# Altium schematic symbol library module_rf_wireless.SchLib: 27 symbols
Pins are listed as number, name and electrical type; pins without a type are passive.

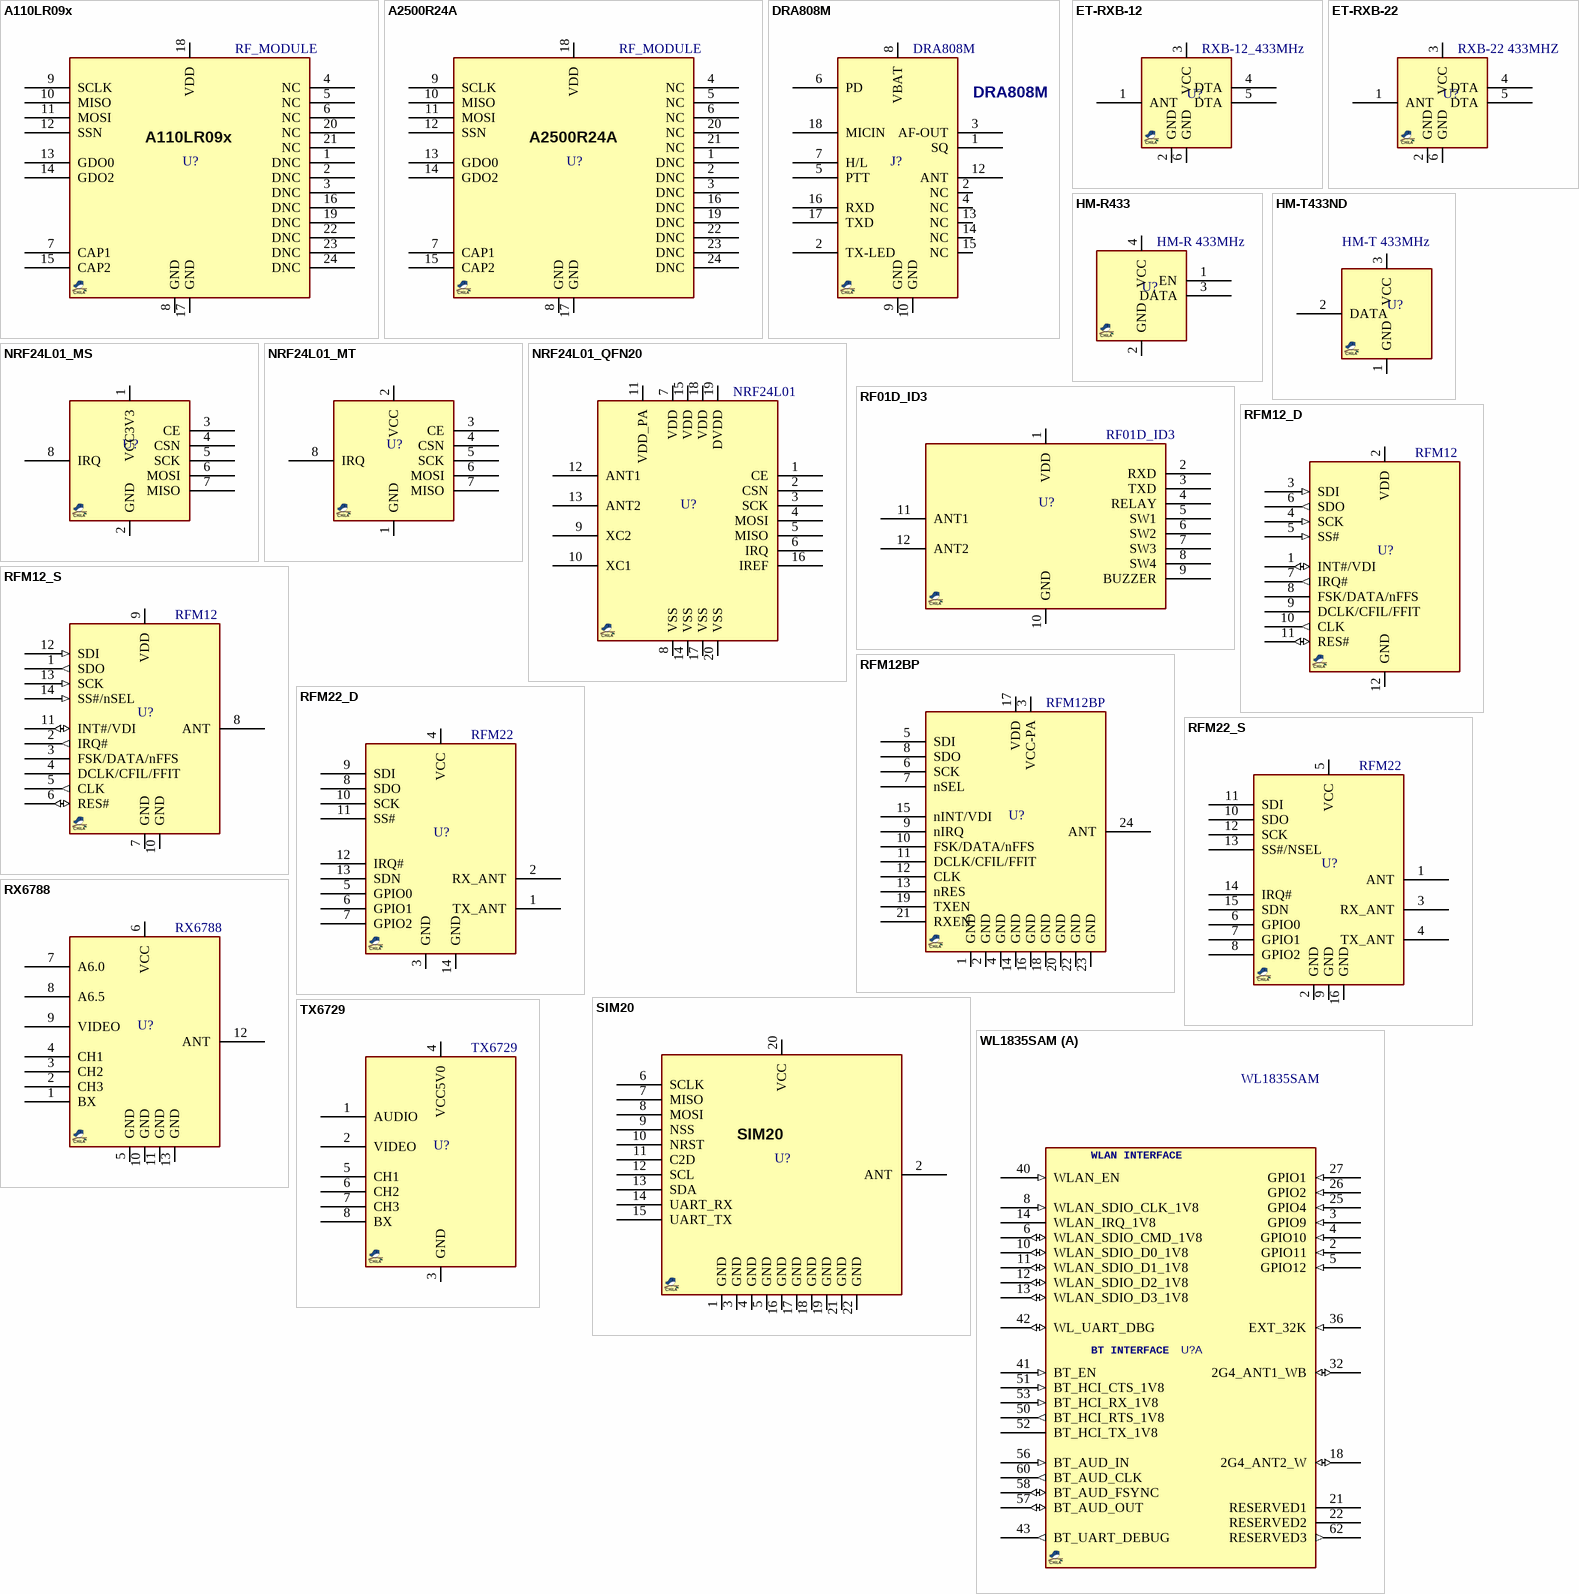
[diagram p0: symbols A110LR09x to WL1835SAM]

## A110LR09x
designator U?, comment RF_MODULE
2.4GHz Transceiver, Low-power, 500Kbps; MANF_P#: A110LR09x; MANF: ANAREN; PARAM2: 1.8~3.6V; PARAM: 2.4GHz; VALUE: RF_MODULE
footprint RF_ANAREN_A11 (RF MODULE, ANAREN, 2.4GHz,)
pins: 1 DNC, 2 DNC, 3 DNC, 4 NC, 5 NC, 6 NC, 7 CAP1, 8 GND, 9 SCLK, 10 MISO, 11 MOSI, 12 SSN, 13 GDO0, 14 GDO2, 15 CAP2, 16 DNC, 17 GND, 18 VDD, 19 DNC, 20 NC, 21 NC, 22 DNC, 23 DNC, 24 DNC

## A2500R24A
designator U?, comment RF_MODULE
2.4GHz Transceiver, Low-power, 500Kbps; MANF_P#: A2500R24A; MANF: ANAREN; PARAM2: 1.8~3.6V; PARAM: 2.4GHz; VALUE: RF_MODULE
footprint RF_ANAREN_A25 (RF MODULE, ANAREN, 2.4GHz,)
pins: 1 DNC, 2 DNC, 3 DNC, 4 NC, 5 NC, 6 NC, 7 CAP1, 8 GND, 9 SCLK, 10 MISO, 11 MOSI, 12 SSN, 13 GDO0, 14 GDO2, 15 CAP2, 16 DNC, 17 GND, 18 VDD, 19 DNC, 20 NC, 21 NC, 22 DNC, 23 DNC, 24 DNC

## DRA808M
designator J?
Wireless Voice Transceiver; MANF: DORJI; PARAM2: 3.3~4.5V; MANF_P#: DRA808M; VALUE: DRA808M
footprint DRA808M
pins: 1 SQ, 2 TX-LED, 2 NC, 3 AF-OUT, 4 NC, 5 PTT, 6 PD, 7 H/L, 8 VBAT, 9 GND, 10 GND, 12 ANT, 13 NC, 14 NC, 15 NC, 16 RXD, 17 TXD, 18 MICIN

## ET-RXB-12
designator U?, comment RXB-12_433MHz
Modules RF 315MHz; MANF_P#: ET-RXB-12; PARAM2: 3.3~5.5VCC; PARAM: 315MHz, 2.4Kbps, -30~85oC; MANF: www.eeant.com; PRICE: 7t@ECA; VALUE: RXB-12_433MHz
footprint RF_ETRXB (Module RF, Receiver, ET-RXB-12, ET-RXB-22)
pins: 1 ANT, 2 GND, 3 VCC, 4 DTA, 5 DTA, 6 GND

## ET-RXB-22
designator U?, comment RXB-22 433MHZ
Modules RF 433MHz; MANF_P#: ET-RXB-22; PARAM2: 3.3~5.5VCC; PARAM: 433MHz, 2.4Kbps, -30~85oC; MANF: www.eeant.com; PRICE: 7t@ECA; VALUE: RXB-22 433MHZ
footprint RF_ETRXB (Module RF, Receiver, ET-RXB-12, ET-RXB-22)
pins: 1 ANT, 2 GND, 3 VCC, 4 DTA, 5 DTA, 6 GND

## HM-R433
designator U?, comment HM-R 433MHz
Modules RF 433MHz; MANF: HOPE RF; PARAM2: 2.5~5VCC; MANF_P#: HM-R; VALUE: HM-R 433MHz
footprint RF_HMR (Module RF, Receiver, HM-R)
pins: 1 EN, 2 GND, 3 DATA, 4 VCC

## HM-T433ND
designator U?, comment HM-T 433MHz
Modules RF 433MHz; MANF: HOPE RF; MANF_P#: HM-T433ND; VALUE: HM-T 433MHz
footprint RF_HMT (Module RF, Transmitter, HM-T)
pins: 1 GND, 2 DATA, 3 VCC

## NRF24L01_MS
designator U?  (value not drawn)
2.4GHz Transceiver MODULE, SMD
footprint NRF24L01_H (MODULE, WIRELESS, NRF24L01 HEADER 2X8)
pins: 1 VCC3V3, 2 GND (power), 3 CE, 4 CSN, 5 SCK, 6 MOSI, 7 MISO, 8 IRQ

## NRF24L01_MT
designator U?  (value not drawn)
2.4GHz Transceiver MODULE, THD
footprint NRF24L01_H (MODULE, WIRELESS, NRF24L01 HEADER 2X8)
pins: 1 GND (power), 2 VCC, 3 CE, 4 CSN, 5 SCK, 6 MOSI, 7 MISO, 8 IRQ

## NRF24L01_QFN20
designator U?, comment NRF24L01
2.4GHz Transceiver; MANF: NORDIC; PARAM2: 1.9~3.6VCC; MANF_P#: NRF24L01; VALUE: NRF24L01
footprint QFN50_20T (QFN, 20, 4X4mm, 0.5mm)
pins: 1 CE, 2 CSN, 3 SCK, 4 MOSI, 5 MISO, 6 IRQ, 7 VDD, 8 VSS, 9 XC2, 10 XC1, 11 VDD_PA, 12 ANT1, 13 ANT2, 14 VSS, 15 VDD, 16 IREF, 17 VSS, 18 VDD, 19 DVDD, 20 VSS

## RF01D_ID3
designator U?
VALUE: RF01D_ID3
footprint RF01D
pins: 1 VDD, 2 RXD, 3 TXD, 4 RELAY, 5 SW1, 6 SW2, 7 SW3, 8 SW4, 9 BUZZER, 10 GND, 11 ANT1, 12 ANT2

## RFM12_D
designator U?, comment RFM12
Universal ISM Band FSK Transceiver Module, 256Kbps; MANF: HopeRF; MANF_P#: RFM12B-D; PARAM2: 2.2~3.8V; VALUE: RFM12
footprint RFM12B_D (MODULE, WIRELESS, RFM12B-D)
pins: 1 INT#/VDI (io), 2 VDD (power), 3 SDI (in), 4 SCK (in), 5 SS# (in), 6 SDO (out), 7 IRQ# (out), 8 FSK/DATA/nFFS, 9 DCLK/CFIL/FFIT, 10 CLK (out), 11 RES# (io), 12 GND (power)

## RFM12_S
designator U?, comment RFM12
Universal ISM Band FSK Transceiver Module, 256Kbps; MANF: HopeRF; MANF_P#: RFM12B-S; PARAM2: 2.2~3.8V; VALUE: RFM12
footprint RFM12B_S (MODULE, WIRELESS, RFM12B-S)
pins: 1 SDO (out), 2 IRQ# (out), 3 FSK/DATA/nFFS, 4 DCLK/CFIL/FFIT, 5 CLK (out), 6 RES# (io), 7 GND (power), 8 ANT, 9 VDD (power), 10 GND (power), 11 INT#/VDI (io), 12 SDI (in), 13 SCK (in), 14 SS#/nSEL (in)

## RFM12BP
designator U?
Universal ISM Band FSK Transceiver Module, 256Kbps; MANF: HopeRF; PARAM2: 2.2~3.8V; MANF_P#: RFM12BP; VALUE: RFM12BP
footprint RFM12B_D (MODULE, WIRELESS, RFM12B-D)
pins: 1 GND (power), 2 GND (power), 3 VCC-PA (power), 4 GND (power), 5 SDI (power), 6 SCK (power), 7 nSEL (power), 8 SDO (power), 9 nIRQ (power), 10 FSK/DATA/nFFS (power), 11 DCLK/CFIL/FFIT (power), 12 CLK (power), 13 nRES (power), 14 GND (power), 15 nINT/VDI (power), 16 GND (power), 17 VDD (power), 18 GND (power), 19 TXEN (power), 20 GND (power), 21 RXEN (power), 22 GND (power), 23 GND (power), 24 ANT (power)

## RFM22_D
designator U?, comment RFM22
ISM FSK Transceiver Module, 128Kbps; MANF: HopeRF; MANF_P#: RFM22-433-D, RFM22-868-D; PARAM2: 1.8~3.6V; VALUE: RFM22
footprint RFM22_S (MODULE, WIRELESS, RFM22-S1)
pins: 1 TX_ANT, 2 RX_ANT, 3 GND, 4 VCC, 5 GPIO0, 6 GPIO1, 7 GPIO2, 8 SDO, 9 SDI, 10 SCK, 11 SS#, 12 IRQ#, 13 SDN, 14 GND

## RFM22_S
designator U?, comment RFM22
ISM FSK Transceiver Module, 128Kbps; MANF: HopeRF; MANF_P#: RFM22-868-S1, RFM22-868-S2; PARAM2: 1.8~3.6V; VALUE: RFM22
footprint RFM22_S (MODULE, WIRELESS, RFM22-S1)
pins: 1 ANT, 2 GND (power), 3 RX_ANT, 4 TX_ANT, 5 VCC (power), 6 GPIO0, 7 GPIO1, 8 GPIO2, 9 GND (power), 10 SDO, 11 SDI, 12 SCK, 13 SS#/NSEL, 14 IRQ#, 15 SDN, 16 GND (power)

## RX6788
designator U?
2.4G Audio&Video Receiver Module; MANF: JAV; PARAM2: 5V; MANF_P#: RX6788; VALUE: RX6788
footprint RX6788
pins: 1 BX, 2 CH3, 3 CH2, 4 CH1, 5 GND, 6 VCC, 7 A6.0, 8 A6.5, 9 VIDEO, 10 GND, 11 GND, 12 ANT, 13 GND

## SIM20
designator U?  (value not drawn)
Modules RF, GPSK, 128Kbps; MANF: SIMCOM; PARAM: 434, 868, 915MHz; PARAM2: 3~3.6V; MANF_P#: SIM20; VALUE: SIM20
footprint RF_SIM20 (Footprint not found)
pins: 1 GND, 2 ANT, 3 GND, 4 GND, 5 GND, 6 SCLK, 7 MISO, 8 MOSI, 9 NSS, 10 NRST, 11 C2D, 12 SCL, 13 SDA, 14 UART_RX, 15 UART_TX, 16 GND, 17 GND, 18 GND, 19 GND, 20 VCC, 21 GND, 22 GND

## TX6729
designator U?
2.4G Audio&Video Transmitter Module; MANF: JAV; PARAM2: 5V; MANF_P#: TX6729; VALUE: TX6729
footprint RX6788
pins: 1 AUDIO, 2 VIDEO, 3 GND, 4 VCC5V0, 5 CH1, 6 CH2, 7 CH3, 8 BX

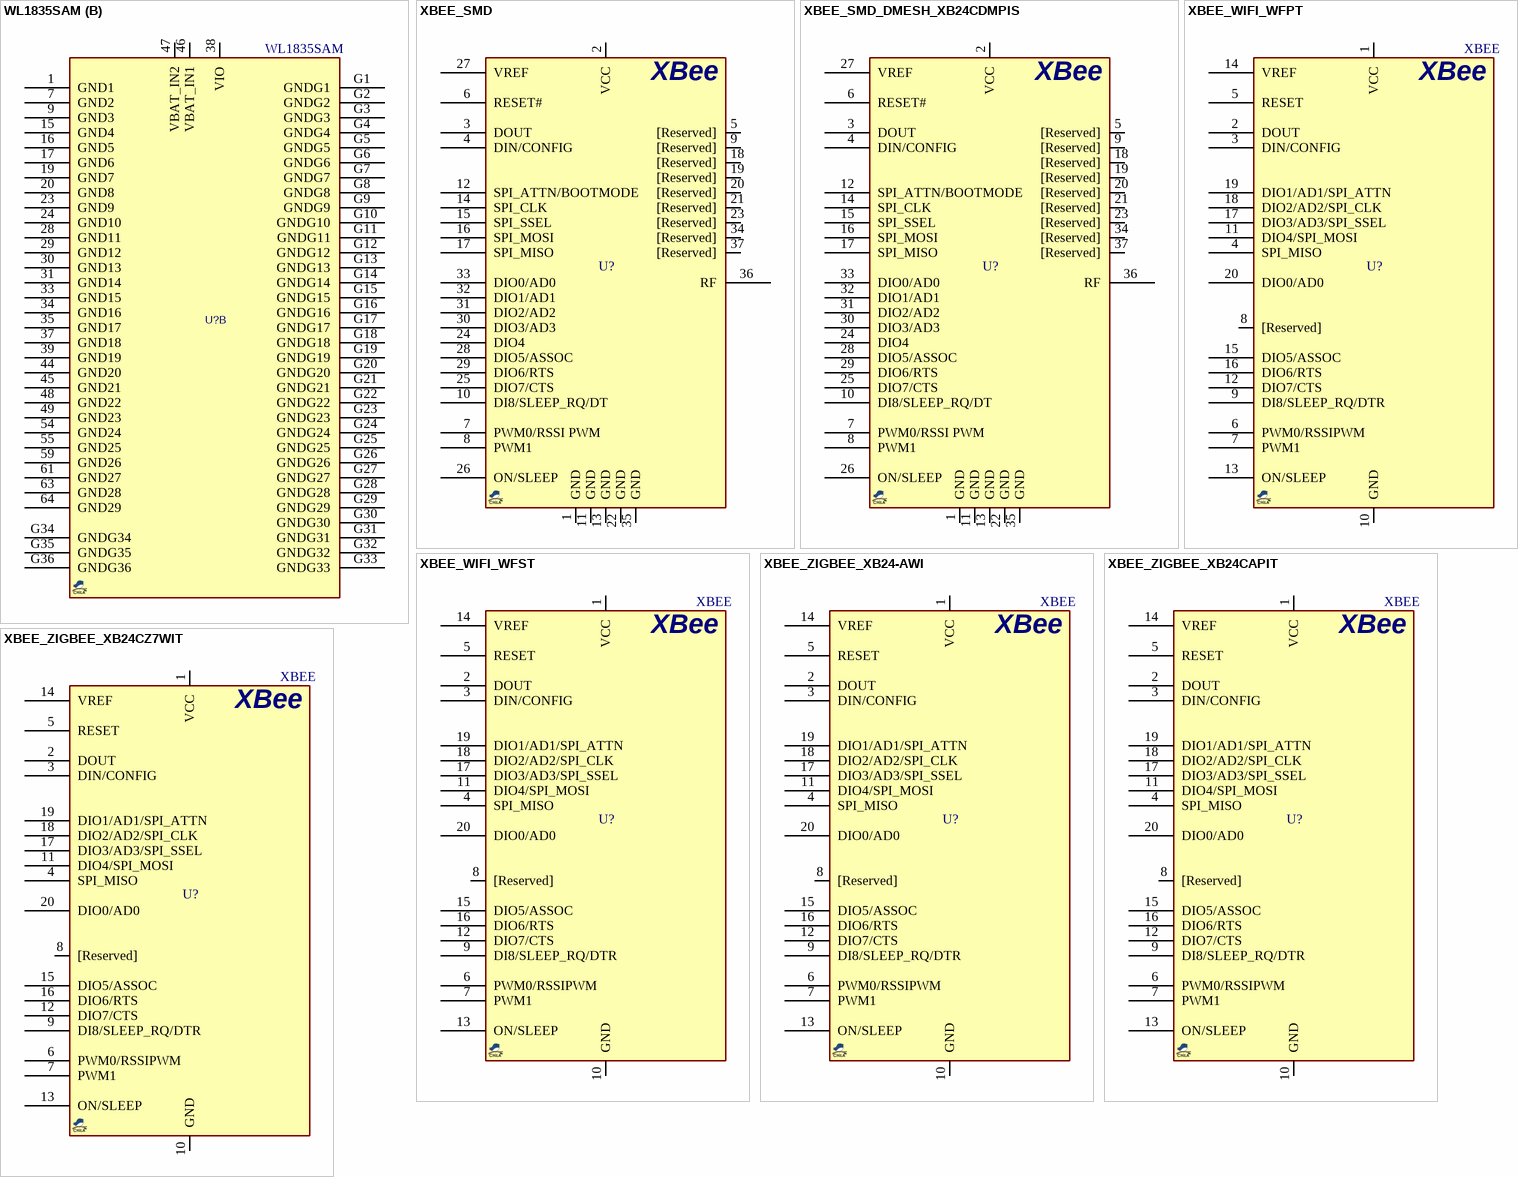
[diagram p1: symbols WL1835SAM to XBEE_ZIGBEE_XB24CZ7WIT]

## WL1835SAM
designator U?
WIFI BLUETOOTH MODULE; PARAM: TIWI BLE MODULE; MANF_P#: WL1835SAM; VALUE: WL1835SAM
footprint LGA70_64_13P3X13P4 (LGA64_13P3X13P4_P7MM)
part A pins: 2 GPIO11 (in), 3 GPIO9 (in), 4 GPIO10 (in), 5 GPIO12 (in), 6 WLAN_SDIO_CMD_1V8 (io), 8 WLAN_SDIO_CLK_1V8 (in), 10 WLAN_SDIO_D0_1V8 (io), 11 WLAN_SDIO_D1_1V8 (io), 12 WLAN_SDIO_D2_1V8 (io), 13 WLAN_SDIO_D3_1V8 (io), 14 WLAN_IRQ_1V8, 18 2G4_ANT2_W (io), 21 RESERVED1, 22 RESERVED2, 25 GPIO4 (in), 26 GPIO2 (in), 27 GPIO1 (in), 32 2G4_ANT1_WB (io), 36 EXT_32K (in), 40 WLAN_EN (in), 41 BT_EN (in), 42 WL_UART_DBG (io), 43 BT_UART_DEBUG (out), 50 BT_HCI_RTS_1V8 (out), 51 BT_HCI_CTS_1V8 (in), 52 BT_HCI_TX_1V8, 53 BT_HCI_RX_1V8 (in), 56 BT_AUD_IN (in), 57 BT_AUD_OUT (io), 58 BT_AUD_FSYNC (io), 60 BT_AUD_CLK (out), 62 RESERVED3 (out)
part B pins: 1 GND1, 7 GND2, 9 GND3, 15 GND4, 16 GND5, 17 GND6, 19 GND7, 20 GND8, 23 GND9, 24 GND10, 28 GND11, 29 GND12, 30 GND13, 31 GND14, 33 GND15, 34 GND16, 35 GND17, 37 GND18, 38 VIO (power), 39 GND19, 44 GND20, 45 GND21, 46 VBAT_IN1 (power), 47 VBAT_IN2 (power), 48 GND22, 49 GND23, 54 GND24, 55 GND25, 59 GND26, 61 GND27, 63 GND28, 64 GND29, G1 GNDG1, G2 GNDG2, G3 GNDG3, G4 GNDG4, G5 GNDG5, G6 GNDG6, G7 GNDG7, G8 GNDG8, G9 GNDG9, G10 GNDG10, G11 GNDG11, G12 GNDG12, G13 GNDG13, G14 GNDG14, G15 GNDG15, G16 GNDG16, G17 GNDG17, G18 GNDG18, G19 GNDG19, G20 GNDG20, G21 GNDG21, G22 GNDG22, G23 GNDG23, G24 GNDG24, G25 GNDG25, G26 GNDG26, G27 GNDG27, G28 GNDG28, G29 GNDG29, G30 GNDG30, G31 GNDG31, G32 GNDG32, G33 GNDG33, G34 GNDG34, G35 GNDG35, G36 GNDG36
part A text: WLAN INTERFACE; BT INTERFACE

## XBEE_SMD
designator U?  (value not drawn)
ZigBee Embedded RF Module, 250Kbps; MANF: DIGI; VALUE: XBEE_SMD
footprint XBEE_SMD (XBEE SMD MODULE digi.com)
pins: 1 GND, 2 VCC, 3 DOUT, 4 DIN/CONFIG, 5 [Reserved], 6 RESET#, 7 PWM0/RSSI PWM, 8 PWM1, 9 [Reserved], 10 DI8/SLEEP_RQ/DT, 11 GND, 12 SPI_ATTN/BOOTMODE, 13 GND, 14 SPI_CLK, 15 SPI_SSEL, 16 SPI_MOSI, 17 SPI_MISO, 18 [Reserved], 19 [Reserved], 20 [Reserved], 21 [Reserved], 22 GND, 23 [Reserved], 24 DIO4, 25 DIO7/CTS, 26 ON/SLEEP, 27 VREF, 28 DIO5/ASSOC, 29 DIO6/RTS, 30 DIO3/AD3, 31 DIO2/AD2, 32 DIO1/AD1, 33 DIO0/AD0, 34 [Reserved], 35 GND, 36 RF, 37 [Reserved]
text: XBee

## XBEE_SMD_DMESH_XB24CDMPIS
designator U?, comment XBEE_SMD  (value not drawn)
DigiMesh 2.4, 2.1~3.6V; MANF: DIGI; MANF_P#: XB24CDMPIS-001; PARAM2: 2.1~3.6V; PRICE: 18$; VALUE: XBEE_SMD
footprint XBEE_SMD (XBEE SMD MODULE digi.com)
pins: 1 GND, 2 VCC, 3 DOUT, 4 DIN/CONFIG, 5 [Reserved], 6 RESET#, 7 PWM0/RSSI PWM, 8 PWM1, 9 [Reserved], 10 DI8/SLEEP_RQ/DT, 11 GND, 12 SPI_ATTN/BOOTMODE, 13 GND, 14 SPI_CLK, 15 SPI_SSEL, 16 SPI_MOSI, 17 SPI_MISO, 18 [Reserved], 19 [Reserved], 20 [Reserved], 21 [Reserved], 22 GND, 23 [Reserved], 24 DIO4, 25 DIO7/CTS, 26 ON/SLEEP, 27 VREF, 28 DIO5/ASSOC, 29 DIO6/RTS, 30 DIO3/AD3, 31 DIO2/AD2, 32 DIO1/AD1, 33 DIO0/AD0, 34 [Reserved], 35 GND, 36 RF, 37 [Reserved]
text: XBee

## XBEE_WIFI_WFPT
designator U?, comment XBEE
WIFI/802.11 b/g/n, 65Mbps, 3.3V; MANF: DIGI; MANF_P#: XB2B-WFPT-001; PRICE: 30$; VALUE: XBEE
footprint XBEE (XBEE MODULE digi.com, XBEE, XBEE PRO)
pins: 1 VCC, 2 DOUT, 3 DIN/CONFIG, 4 SPI_MISO, 5 RESET, 6 PWM0/RSSIPWM, 7 PWM1, 8 [Reserved], 9 DI8/SLEEP_RQ/DTR, 10 GND, 11 DIO4/SPI_MOSI, 12 DIO7/CTS, 13 ON/SLEEP, 14 VREF, 15 DIO5/ASSOC, 16 DIO6/RTS, 17 DIO3/AD3/SPI_SSEL, 18 DIO2/AD2/SPI_CLK, 19 DIO1/AD1/SPI_ATTN, 20 DIO0/AD0
text: XBee

## XBEE_WIFI_WFST
designator U?, comment XBEE
WIFI/802.11 b/g/n, 65Mbps, 3.3V; MANF: DIGI; MANF_P#: XB2B-WFST-001; PRICE: 30$; VALUE: XBEE
footprint XBEE (XBEE MODULE digi.com, XBEE, XBEE PRO)
pins: 1 VCC, 2 DOUT, 3 DIN/CONFIG, 4 SPI_MISO, 5 RESET, 6 PWM0/RSSIPWM, 7 PWM1, 8 [Reserved], 9 DI8/SLEEP_RQ/DTR, 10 GND, 11 DIO4/SPI_MOSI, 12 DIO7/CTS, 13 ON/SLEEP, 14 VREF, 15 DIO5/ASSOC, 16 DIO6/RTS, 17 DIO3/AD3/SPI_SSEL, 18 DIO2/AD2/SPI_CLK, 19 DIO1/AD1/SPI_ATTN, 20 DIO0/AD0
text: XBee

## XBEE_ZIGBEE_XB24-AWI
designator U?, comment XBEE
Zigbee/802.15.4, 250Kbps, 2.8~3.4V; MANF: DIGI; MANF_P#: XB24-AWI-001; PARAM2: 2.8~3.4V; PRICE: 18$; VALUE: XBEE
footprint XBEE (XBEE MODULE digi.com, XBEE, XBEE PRO)
pins: 1 VCC, 2 DOUT, 3 DIN/CONFIG, 4 SPI_MISO, 5 RESET, 6 PWM0/RSSIPWM, 7 PWM1, 8 [Reserved], 9 DI8/SLEEP_RQ/DTR, 10 GND, 11 DIO4/SPI_MOSI, 12 DIO7/CTS, 13 ON/SLEEP, 14 VREF, 15 DIO5/ASSOC, 16 DIO6/RTS, 17 DIO3/AD3/SPI_SSEL, 18 DIO2/AD2/SPI_CLK, 19 DIO1/AD1/SPI_ATTN, 20 DIO0/AD0
text: XBee

## XBEE_ZIGBEE_XB24CAPIT
designator U?, comment XBEE
Zigbee/802.15.4, 250Kbps, 2.1~3.6V; MANF: DIGI; MANF_P#: XB24CAPIT-001; PARAM2: 2.1~3.6V; PRICE: 18$; VALUE: XBEE
footprint XBEE (XBEE MODULE digi.com, XBEE, XBEE PRO)
pins: 1 VCC, 2 DOUT, 3 DIN/CONFIG, 4 SPI_MISO, 5 RESET, 6 PWM0/RSSIPWM, 7 PWM1, 8 [Reserved], 9 DI8/SLEEP_RQ/DTR, 10 GND, 11 DIO4/SPI_MOSI, 12 DIO7/CTS, 13 ON/SLEEP, 14 VREF, 15 DIO5/ASSOC, 16 DIO6/RTS, 17 DIO3/AD3/SPI_SSEL, 18 DIO2/AD2/SPI_CLK, 19 DIO1/AD1/SPI_ATTN, 20 DIO0/AD0
text: XBee

## XBEE_ZIGBEE_XB24CZ7WIT
designator U?, comment XBEE
Zigbee/802.15.4, 250Kbps, 2.1~3.6V; MANF: DIGI; MANF_P#: XB24CZ7WIT-004; PARAM2: 2.1~3.6V; PRICE: 18$; VALUE: XBEE
footprint XBEE (XBEE MODULE digi.com, XBEE, XBEE PRO)
pins: 1 VCC, 2 DOUT, 3 DIN/CONFIG, 4 SPI_MISO, 5 RESET, 6 PWM0/RSSIPWM, 7 PWM1, 8 [Reserved], 9 DI8/SLEEP_RQ/DTR, 10 GND, 11 DIO4/SPI_MOSI, 12 DIO7/CTS, 13 ON/SLEEP, 14 VREF, 15 DIO5/ASSOC, 16 DIO6/RTS, 17 DIO3/AD3/SPI_SSEL, 18 DIO2/AD2/SPI_CLK, 19 DIO1/AD1/SPI_ATTN, 20 DIO0/AD0
text: XBee